# Altium footprint library SW_DS04-254-2-01BK-SMT.PcbLib: 1 footprints
Each footprint in its own frame and in the unit in brackets; x right, y up, seen from the top. Pads: shape width x height; smd on the part's side, far side on the other; paste and mask are expansions set on the pad; w line width, h text height; cw(c..) or ccw(c..) is an arc to the next point about the centre after c.
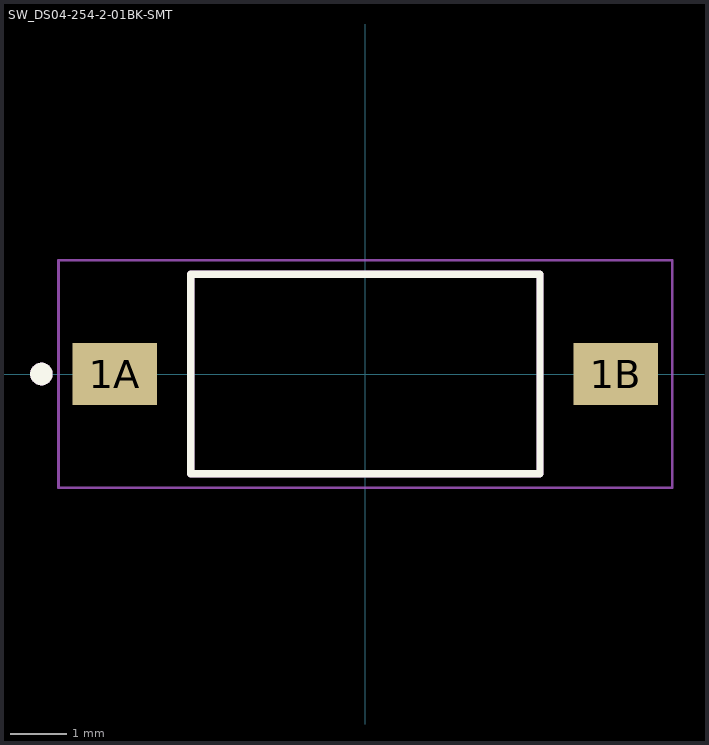
[diagram p0: the footprint, top view; thin cyan lines are the x and y axes]

## SW_DS04-254-2-01BK-SMT [mm]
height 4.86
pads (2):
  rect 1.5x1.1 smd: 1A(-4.45,0) 1B(4.45,0)
Top Overlay:
  circle w0.2: c-5.75,0 r0.1
  lines w0.127: -3.1,-1.77 3.1,-1.77 3.1,1.77 -3.1,1.77 -3.1,-1.77
Mechanical 13:
  circle w0.2: c-5.75,0 r0.1
  lines w0.127: -3.1,-1.77 3.1,-1.77 3.1,1.77 -3.1,1.77 -3.1,-1.77
Mechanical 15:
  lines w0.05: -5.45,-2.02 -5.45,2.02 5.45,2.02 5.45,-2.02 -5.45,-2.02
3D body "DS04-254-2-01BK-SMT.step": height 3.98, standoff -0.02, extent -4.95,-1.778 4.95,1.762